# Altium footprint library J_Tag.PcbLib: 28 footprints (part 2 of 2)
Each footprint in its own frame and in the unit in brackets; x right, y up, seen from the top. Pads: shape width x height; smd on the part's side, far side on the other; paste and mask are expansions set on the pad; w line width, h text height; cw(c..) or ccw(c..) is an arc to the next point about the centre after c.
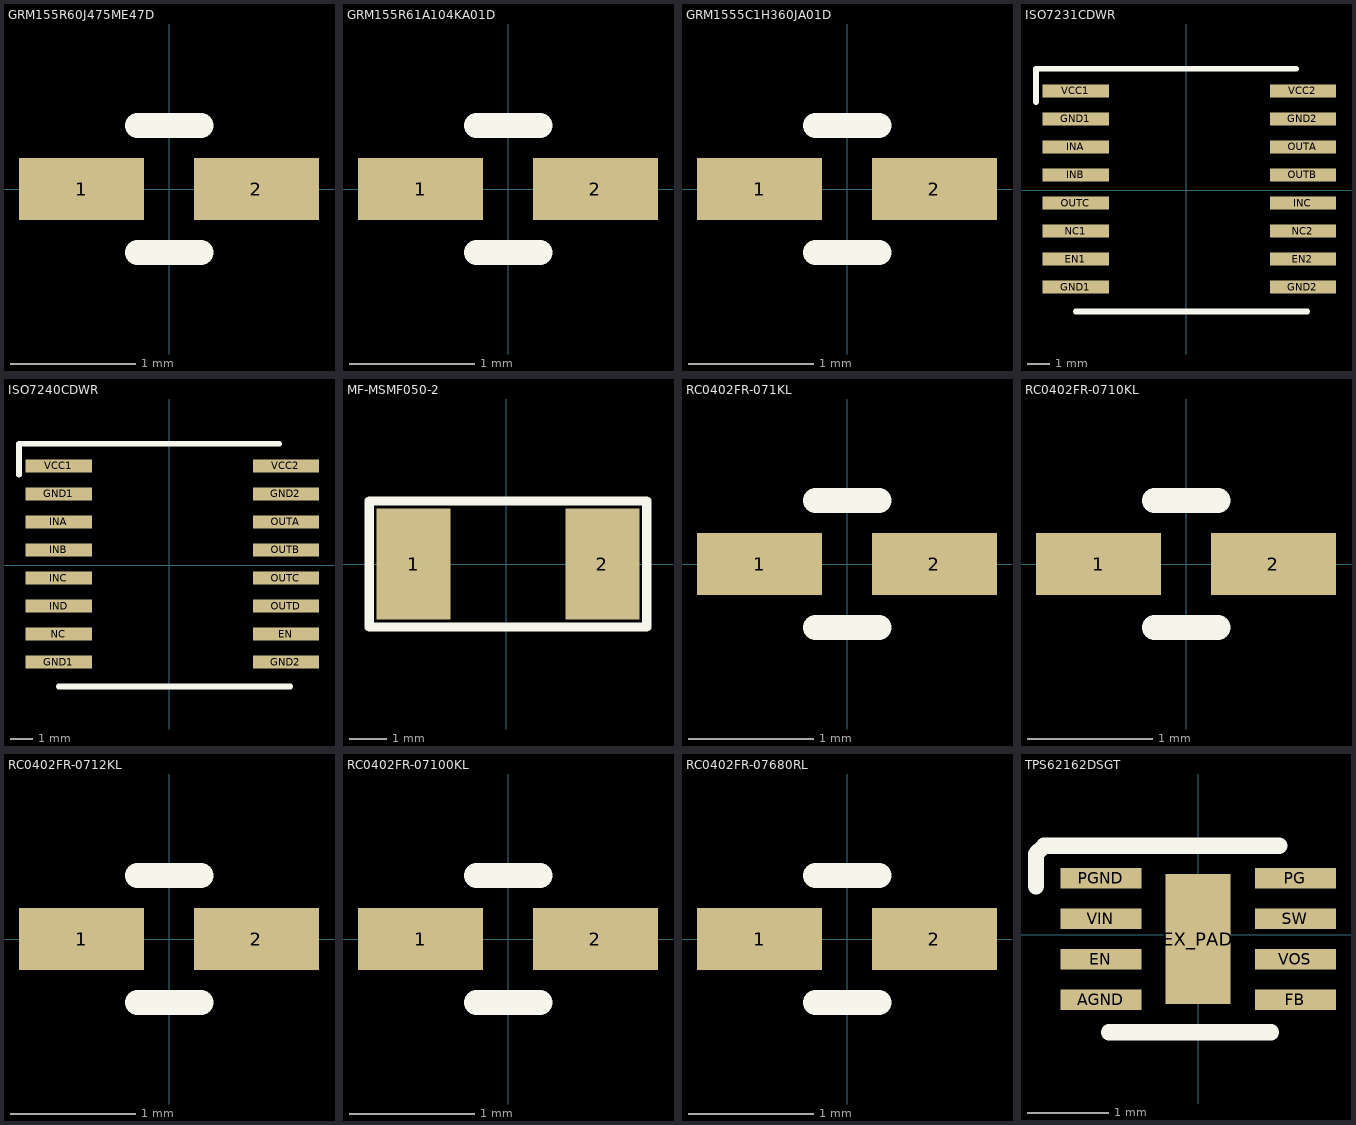
[diagram p1: the footprints below, top view; thin cyan lines are the x and y axes]

## GRM155R60J475ME47D [mm] "CAP CER 4.7UF 6.3V X5R 0402"
pads (2):
  rect 1x0.5 smd: 1(-0.7,0) 2(0.7,0)
Top Overlay:
  lines w0.2: -0.254,-0.508 0.254,-0.508 ; -0.254,0.508 0.254,0.508
3D body "AMK105ABJ475MV-F--3DModel-STEP-46669.STEP": height 0.6, standoff 0, extent -0.5,-0.25 0.5,0.25

## GRM155R61A104KA01D [mm] "CAP CER 0.1UF 10V X5R 0402"
pads (2):
  rect 1x0.5 smd: 1(-0.7,0) 2(0.7,0)
Top Overlay:
  lines w0.2: -0.254,-0.508 0.254,-0.508 ; -0.254,0.508 0.254,0.508
3D body "EVK105RH010BW-F--3DModel-STEP-46669.STEP": height 0.55, standoff 0, extent -0.5,-0.25 0.5,0.25

## GRM1555C1H360JA01D [mm] "CAP CER 36PF 50V C0G/NP0 0402"
pads (2):
  rect 1x0.5 smd: 1(-0.7,0) 2(0.7,0)
Top Overlay:
  lines w0.2: -0.254,-0.508 0.254,-0.508 ; -0.254,0.508 0.254,0.508
3D body "EVK105RH010BW-F--3DModel-STEP-46669.STEP": height 0.55, standoff 0, extent -0.5,-0.25 0.5,0.25

## ISO7231CDWR [mm] "Izolator"
pads (16):
  rect 3x0.6 smd: EN1(-5,-3.12) EN2(5.3,-3.12) GND1(-5,-4.39) GND1(-5,3.23) GND2(5.3,-4.39) GND2(5.3,3.23) INA(-5,1.96) INB(-5,0.69) INC(5.3,-0.58) NC1(-5,-1.85) NC2(5.3,-1.85) OUTA(5.3,1.96) OUTB(5.3,0.69) OUTC(-5,-0.58) VCC1(-5,4.5) VCC2(5.3,4.5)
Top Overlay:
  lines w0.254: -6.8,4 -6.8,5.5 ; -5,-5.5 5.5,-5.5 ; 5,5.5 -5,5.5 -6.5,5.5 -6.8,5.5 ; -6.8,5.5 -6.8,5.5
3D body "DW16_TEX.step": height 2.64, standoff 0, extent -5.321,-5.245 5.321,5.245

## ISO7240CDWR [mm] "Izolator"
pads (16):
  rect 3x0.6 smd: EN(5.3,-3.12) GND1(-5,-4.39) GND1(-5,3.23) GND2(5.3,-4.39) GND2(5.3,3.23) INA(-5,1.96) INB(-5,0.69) INC(-5,-0.58) IND(-5,-1.85) NC(-5,-3.12) OUTA(5.3,1.96) OUTB(5.3,0.69) OUTC(5.3,-0.58) OUTD(5.3,-1.85) VCC1(-5,4.5) VCC2(5.3,4.5)
Top Overlay:
  lines w0.254: -6.8,4.1 -6.8,5.5 ; -5,-5.5 5.5,-5.5 ; 5,5.5 -5,5.5 -6.5,5.5 -6.8,5.5 ; -6.8,5.5 -6.8,5.5
3D body "DW16_TEX.step": height 2.64, standoff 0, extent -5.321,-5.245 5.321,5.245

## MF-MSMF050-2 [mm] "PTC RESET FUSE 15V 500MA 1812"
pads (2):
  rect 2x3 smd: 1(-2.5,0) 2(2.6,0)
Top Overlay:
  lines w0.254: -3.7,-1.7 -3.7,1.7 3.8,1.7 3.8,-1.7 -3.7,-1.7
3D body "mf-msmf050.stp": height 0.7, standoff 0, extent -2.275,-1.62 2.275,1.62

## RC0402FR-071KL [mm] "RES SMD 1K OHM 1% 1/16W 0402"
pads (2):
  rect 1x0.5 smd: 1(-0.7,0) 2(0.7,0)
Top Overlay:
  lines w0.2: -0.254,-0.508 0.254,-0.508 ; -0.254,0.508 0.254,0.508
3D body "RC0402N.step": height 0.71, standoff 0, extent -0.533,-0.254 0.533,0.254

## RC0402FR-0710KL [mm] "RES SMD 10K OHM 1% 1/16W 0402"
pads (2):
  rect 1x0.5 smd: 1(-0.7,0) 2(0.7,0)
Top Overlay:
  lines w0.2: -0.254,-0.508 0.254,-0.508 ; -0.254,0.508 0.254,0.508
3D body "RC0402N.step": height 0.71, standoff 0, extent -0.533,-0.254 0.533,0.254

## RC0402FR-0712KL [mm] "RES SMD 12K OHM 1% 1/16W 0402"
pads (2):
  rect 1x0.5 smd: 1(-0.7,0) 2(0.7,0)
Top Overlay:
  lines w0.2: -0.254,-0.508 0.254,-0.508 ; -0.254,0.508 0.254,0.508
3D body "RC0402N.step": height 0.71, standoff 0, extent -0.533,-0.254 0.533,0.254

## RC0402FR-07100KL [mm] "RES SMD 100K OHM 1% 1/16W 0402"
pads (2):
  rect 1x0.5 smd: 1(-0.7,0) 2(0.7,0)
Top Overlay:
  lines w0.2: -0.254,-0.508 0.254,-0.508 ; -0.254,0.508 0.254,0.508
3D body "RC0402N.step": height 0.71, standoff 0, extent -0.533,-0.254 0.533,0.254

## RC0402FR-07680RL [mm] "RES SMD 680 OHM 1% 1/16W 0402"
pads (2):
  rect 1x0.5 smd: 1(-0.7,0) 2(0.7,0)
Top Overlay:
  lines w0.2: -0.254,-0.508 0.254,-0.508 ; -0.254,0.508 0.254,0.508
3D body "RC0402N.step": height 0.71, standoff 0, extent -0.533,-0.254 0.533,0.254

## TPS62162DSGT [mm] "DC-DC Buck"
pads (9):
  rect 1x0.25 smd mask+0.06: AGND(-1.2,-0.8) EN(-1.2,-0.3) FB(1.2,-0.8) PG(1.2,0.7) PGND(-1.2,0.7) SW(1.2,0.2) VIN(-1.2,0.2) VOS(1.2,-0.3)
  rect 0.8x1.6 smd: EX_PAD(0,-0.05)
Top Overlay:
  lines w0.2: -2,0.6 -2,1 -1.9,1.1 -1,1.1 1,1.1 ; -1.1,-1.2 0.9,-1.2
3D body "DSG8_1P6X0P9_TEX.step": height 0.8, standoff 0, extent -1.05,-1.05 1.05,1.05